# Altium footprint library boxer_mechanical.PcbLib: 33 footprints (part 3 of 3)
Each footprint in its own frame and in the unit in brackets; x right, y up, seen from the top. Pads: shape width x height; smd on the part's side, far side on the other; paste and mask are expansions set on the pad; w line width, h text height; cw(c..) or ccw(c..) is an arc to the next point about the centre after c.
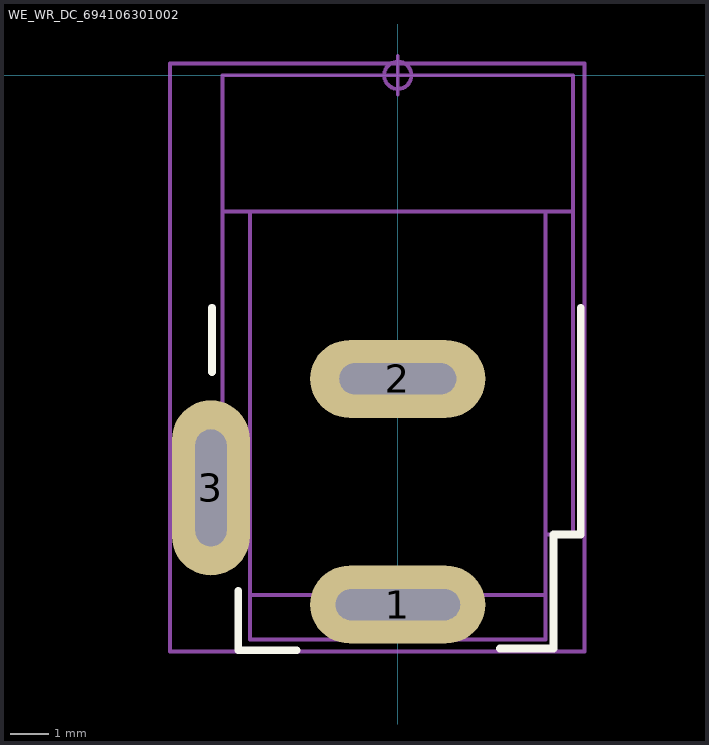
[diagram p2: the footprint, top view; thin cyan lines are the x and y axes]

## WE_WR_DC_694106301002 [mm]
height 11
pads (3):
  oval 4.5x2 hole 0.8 slot 3.2 at 0 deg: 1(0,-13.6)
  oval 4.5x2 hole 0.8 slot 3 at 0 deg: 2(0,-7.8)
  oval 2x4.5 hole 0.8 slot 3 at 90 deg: 3(-4.8,-10.6)
Top Overlay:
  lines w0.2: -4.775,-7.625 -4.775,-5.975 ; -4.1,-13.25 -4.1,-14.775 -2.6,-14.775 ; 2.625,-14.725 4,-14.725 4,-11.8 4.7,-11.8 4.7,-5.975
Mechanical 13:
  lines w0.1: -4.5,-9.3 -4.9,-9.3 -4.9,-11.8 -4.5,-11.8 ; -4.5,-3.5 4.5,-3.5 ; -3.8,-13.35 -1.25,-13.35 ; -3.8,-11.8 -4.5,-11.8 ; -3.8,-3.5 -3.8,-14.5 -1.25,-14.5 -1.25,-13.35 ; -1.25,-14 1.25,-14 ; 3.8,-13.35 1.25,-13.35 ; 3.8,-11.8 4.5,-11.8 4.5,0 0,0 -4.5,0 -4.5,-11.8 ; 3.8,-3.55 3.8,-14.5 1.25,-14.5 1.25,-13.35 ; -1.25,-13.35 1.25,-13.35
  text ".Designator" at -4.5,0.2 h0.5
  text ".Comment" at -1.9,-3.2 h0.5
Mechanical 15:
  circle w0.1: c0,0 r0.35
  lines w0.1: -0.5,0 0.5,0 ; 0,-0.5 0,0.5 ; -5.85,-14.8 -5.85,0.3 4.8,0.3 4.8,-14.8 -5.85,-14.8
3D body "694106301002.stp": height 10.75, standoff -3.75, extent -4.9,-14.5 4.5,0